# Altium integrated library TI Data Converters Analog to Digital Converter.IntLib: 2198 symbols (part 36 of 164)
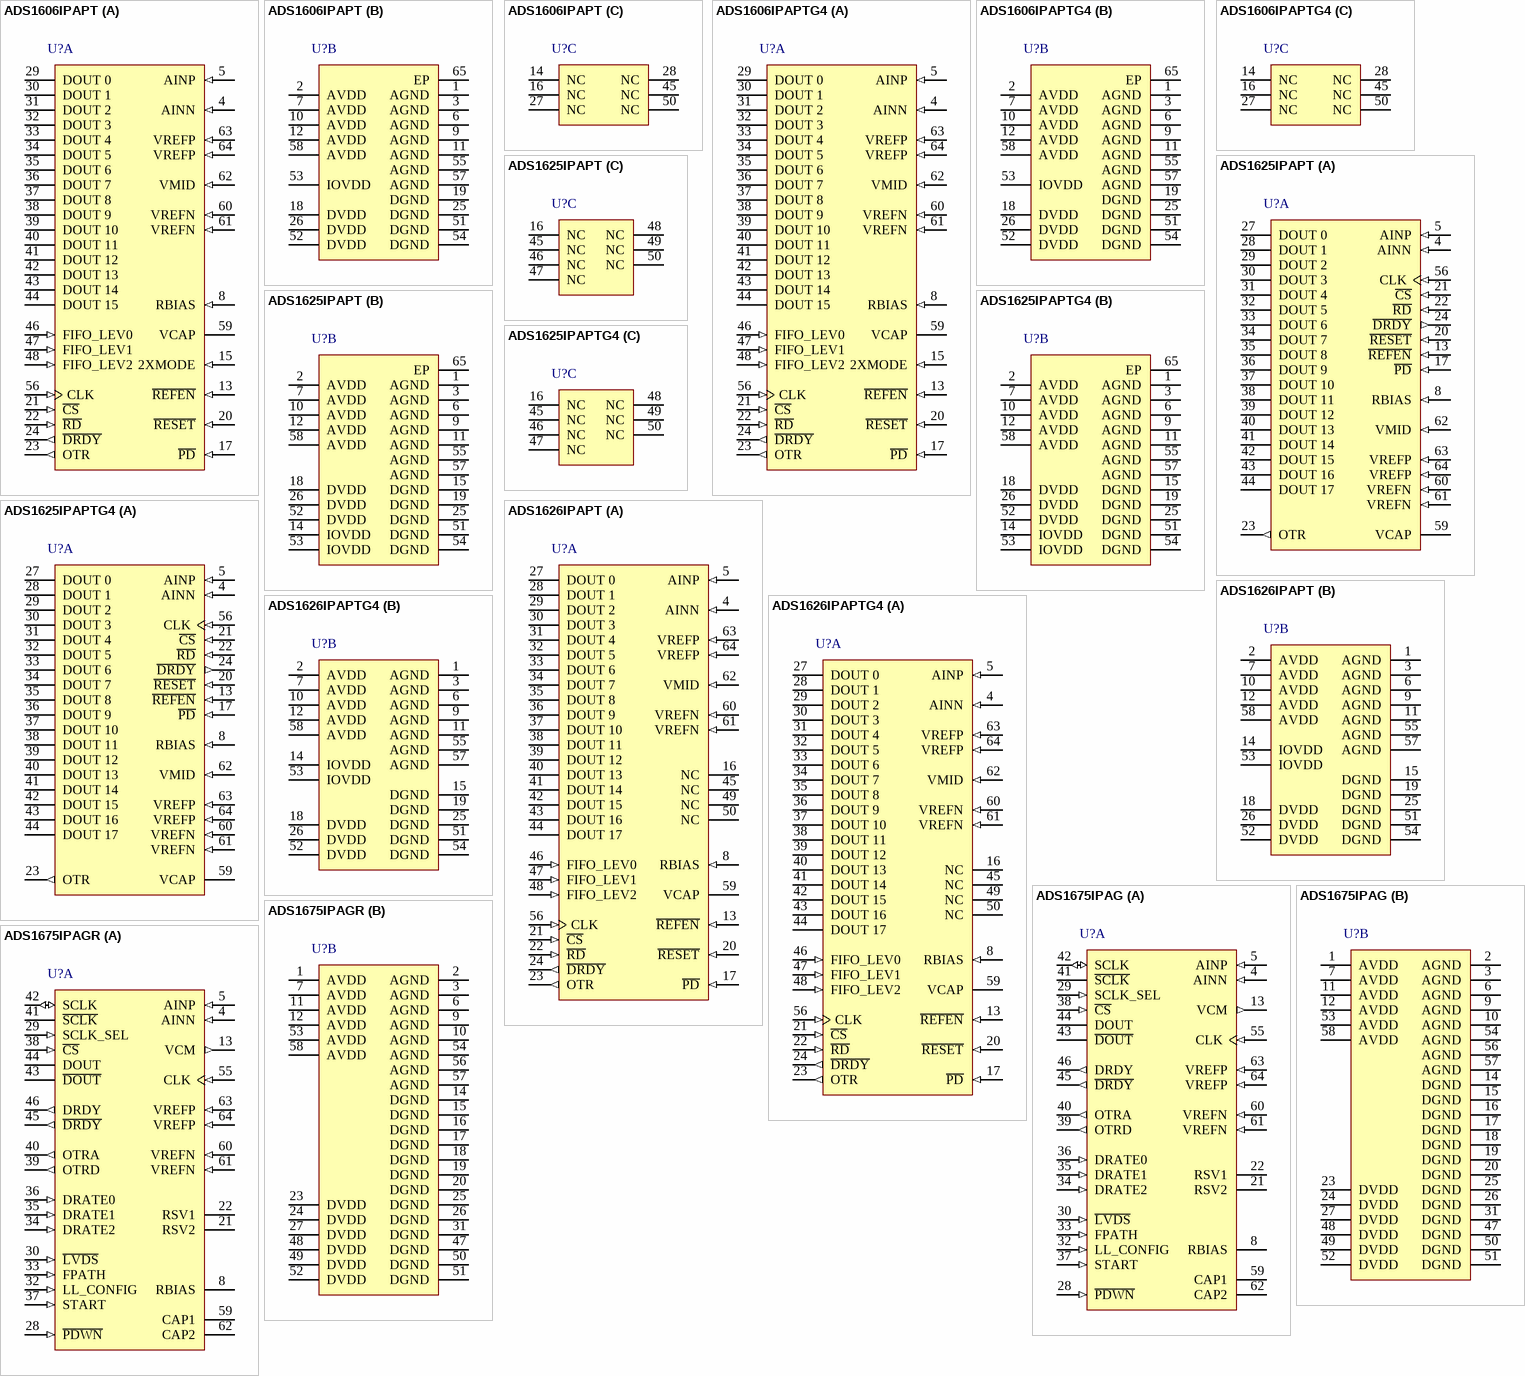
[diagram p161: symbols ADS1606IPAPT to ADS1675IPAGR]

## ADS1675IPAGR
designator U?
4 MSPS, 24-Bit ADC, -40 to 85 degC, 64-pin QFP (PAG64), Green (RoHS & no Sb/Br); Manufacturer: Texas Instruments; PartNumber: ADS1675IPAGR; # Input Channels: 1; Analog Voltage AV/DD(Max)(V): 5.25; Analog Voltage AV/DD(Min)(V): 4.75; Architecture: Delta-Sigma; Digital Supply(Max)(V): 3.15; Digital Supply(Min)(V): 2.85; Interface: Parallel LVDS, Serial SPI; Resolution(Bits): 24; Sample Rate (max)(SPS): 4M; SFDR(dB): 120; SNR(dB): 92; SubFamily: Precision ADC (<=10MSPS); DatasheetVersion: SBAS416D; PackageVersion: 4040282/C, 11/1996; PackageReference: PAG64; PackageDescription: 64-Pin Plastic Flat Pack, Body 10 x 10 mm, Pitch 0.50 mm; Supplier 1: Digi-Key; Supplier Part Number 1: THS1215IPWG4-ND; Eco-Plan: Green (RoHS & no Sb/Br); Mounting Technology: Surface Mount; Code_JEDEC: MS-026; ComponentLink1Description: Manufacturer URL; ComponentLink1URL: http://www.ti.com/; ComponentLink2Description: Datasheet; ComponentLink2URL: http://www.ti.com/general/docs/lit/getliterature.tsp?genericPartNumber=ADS1675&fileType=pdf; ComponentLink3Description: Package Specification; ComponentLink3URL: http://www.ti.com/lit/ml/mtqf006a/mtqf006a.pdf
footprint TI-PAG64_N (QFP, 64-Leads, Body 10x10mm, Pitch 0.5mm, IPC Medium Density)
footprint TI-PAG64_L (QFP, 64-Leads, Body 10x10mm, Pitch 0.5mm, IPC High Density)
footprint TI-PAG64_M (QFP, 64-Leads, Body 10x10mm, Pitch 0.5mm, IPC Low Density)
part A pins: 4 AINN (in) "Negative analog input", 5 AINP (in) "Positive analog input", 8 RBIAS "Analog bias setting resistor", 13 VCM (out) "Terminal for external bypass capacitor connection to internal common-mode voltage", 21 RSV2 "Short pin to digital ground", 22 RSV1 "Short pin to digital supply", 28 ~{PDWN} (in) "Power-down control, active low", 29 SCLK_SEL (in) "Shift-clock source select. If SCLK_SEL = '0', then SCLK is internally generated. If SCLK_SEL = '1', then SCLK must be externally generated.", 30 ~{LVDS} (in) "Serial interface select. If L\V\D\S\ = '0', then interface is LVDS-compatible. If L\V\D\S\ = '1', then interface is CMOS-compatible.", 32 LL_CONFIG (in) "Configure Low-Latency digital filter. If LL_CONFIG = '0', then single-cycle settling is selected. If LL_CONFIG = '1', then fast-response is selected.", 33 FPATH (in) "Digital filter path selection. If FPATH = '0', then path is Wide Bandwidth. If FPATH = '1', then path is Low-Latency.", 34 DRATE2 (in) "Data rate selection", 35 DRATE1 (in) "Data rate selection", 36 DRATE0 (in) "Data rate selection", 37 START (in) "Start convert, reset, and synchronization control input", 38 ~{CS} (in) "Chip select; active low", 39 OTRD (out) "Digital filter out-of-range indicator", 40 OTRA (out) "Analog input out-of-range indicator", 41 ~{SCLK} (hiz) "Negative shift clock output. If SCLK_SEL = '0', then S\C\L\K\ is the complementary shift clock output. If SCLK_SEL = '1', then S\C\L\K\ always output is 3-state.", 42 SCLK (io) "Positive shift clock output. If SCLK_SEL = '0', then SCLK is an output. If SCLK_SEL = '1', then SCLK is an input.", 43 ~{DOUT} (hiz) "Negative LVDS serial data output", 44 DOUT (hiz) "Positive LVDS serial data output", 45 ~{DRDY} (out) "Negative data ready output", 46 DRDY (out) "Positive data ready output", 55 CLK (in) "Master clock input", 59 CAP1 "Terminal for 1uF external bypass capacitor", 60 VREFN (in) "Negative reference voltage. Short to analog ground", 61 VREFN (in) "Negative reference voltage. Short to analog ground", 62 CAP2 "Terminal for 1uF external bypass capacitor", 63 VREFP (in) "Positive reference voltage", 64 VREFP (in) "Positive reference voltage"
part B pins: 1 AVDD (power) "Analog supply", 2 AGND (power) "Analog ground", 3 AGND (power) "Analog ground", 6 AGND (power) "Analog ground", 7 AVDD (power) "Analog supply", 9 AGND (power) "Analog ground", 10 AGND (power) "Analog ground", 11 AVDD (power) "Analog supply", 12 AVDD (power) "Analog supply", 14 DGND (power) "Digital ground", 15 DGND (power) "Digital ground", 16 DGND (power) "Digital ground", 17 DGND (power) "Digital ground", 18 DGND (power) "Digital ground", 19 DGND (power) "Digital ground", 20 DGND (power) "Digital ground", 23 DVDD (power) "Digital supply", 24 DVDD (power) "Digital supply", 25 DGND (power) "Digital ground", 26 DGND (power) "Digital ground", 27 DVDD (power) "Digital supply", 31 DGND (power) "Digital ground", 47 DGND (power) "Digital ground", 48 DVDD (power) "Digital supply", 49 DVDD (power) "Digital supply", 50 DGND (power) "Digital ground", 51 DGND (power) "Digital ground", 52 DVDD (power) "Digital supply", 53 AVDD (power) "Analog supply", 54 AGND (power) "Analog ground", 56 AGND (power) "Analog ground", 57 AGND (power) "Analog ground", 58 AVDD (power) "Analog supply"

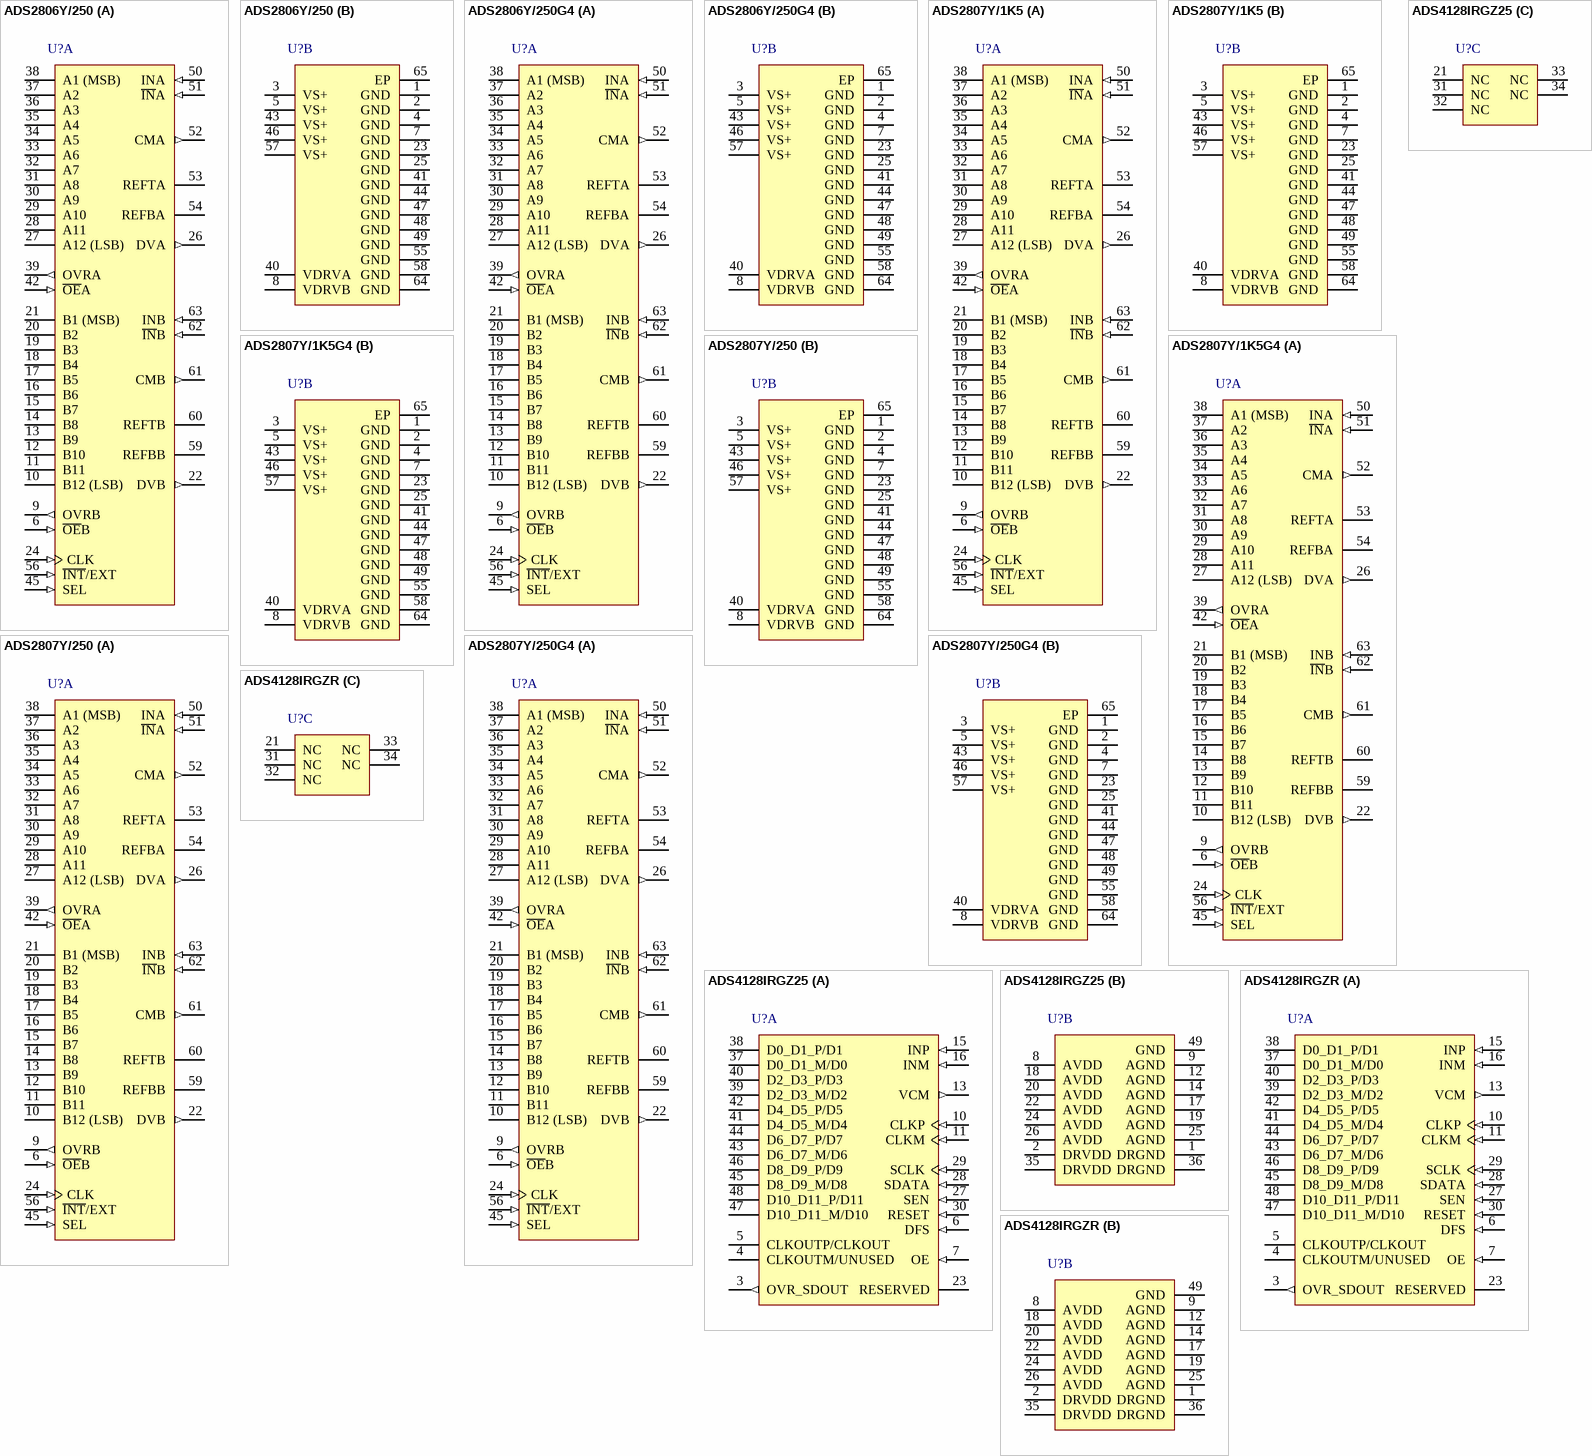
[diagram p31: symbols ADS2806Y/250 to ADS4128IRGZR]

## ADS2806Y/250
designator U?
12-Bit, 32 MSPS Dual ADC, Int / Ext Reference, Program Input Range with Out of Range Flag, -40 to 85 degC, 64-pin QFP (PAP64), Green (RoHS & no Sb/Br); Manufacturer: Texas Instruments; PartNumber: ADS2806Y/250; # Input Channels: 2; Analog Voltage AV/DD(Max)(V): 5.25; Analog Voltage AV/DD(Min)(V): 4.75; Architecture: Pipeline; Digital Supply(Max)(V): 5; Digital Supply(Min)(V): 3; ENOB(Bits): 10.7; INL(Max)(+/-LSB): 4; Interface: Parallel CMOS; Resolution(Bits): 12; Sample Rate (max)(SPS): 32M; SFDR(dB): 73; SINAD(dB): 69; SNR(dB): 66; SubFamily: High Speed ADC (>10MSPS); DatasheetVersion: SBAS178B; PackageVersion: 4147702/C, 08/2003; PackageReference: PAP64-5900X5900TP; PackageDescription: 64-Pin PowerPAD(TM) Plastic Quad Flatpack, Body 10 x 10 mm, Pitch 0.5 mm; Supplier 1: Digi-Key; Supplier Part Number 1: 296-2838-5-ND; Eco-Plan: Green (RoHS & no Sb/Br); Mounting Technology: Surface Mount; Code_JEDEC: MS-026; ComponentLink1Description: Manufacturer URL; ComponentLink1URL: http://www.ti.com/; ComponentLink2Description: Datasheet; ComponentLink2URL: http://www.ti.com/general/docs/lit/getliterature.tsp?genericPartNumber=ADS2806&fileType=pdf; ComponentLink3Description: Package Specification; ComponentLink3URL: http://www.ti.com/lit/ml/mpqf071b/mpqf071b.pdf
footprint TI-PAP64-5900X5900TP_N (QFP, 64-Leads, Body 10x10mm, Pitch 0.5mm, Thermal Pad 6.5x6.5mm, IPC Medium Density)
footprint TI-PAP64-5900X5900TP_L (QFP, 64-Leads, Body 10x10mm, Pitch 0.5mm, Thermal Pad 6.5x6.5mm, IPC High Density)
footprint TI-PAP64-5900X5900TP_M (QFP, 64-Leads, Body 10x10mm, Pitch 0.5mm, Thermal Pad 6.5x6.5mm, IPC Low Density)
part A pins: 6 ~{OE}B (in) "Output Enable, Channel B", 9 OVRB (out) "Over-Range Indicator, Channel B", 10 B12 (LSB) (hiz) "Data Bit 12 (D0), Channel B", 11 B11 (hiz) "Data Bit 11 (D1), Channel B", 12 B10 (hiz) "Data Bit 10 (D2), Channel B", 13 B9 (hiz) "Data Bit 9 (D3), Channel B", 14 B8 (hiz) "Data Bit 8 (D4), Channel B", 15 B7 (hiz) "Data Bit 7 (D5), Channel B", 16 B6 (hiz) "Data Bit 6 (D6), Channel B", 17 B5 (hiz) "Data Bit 5 (D7), Channel B", 18 B4 (hiz) "Data Bit 4 (D8), Channel B", 19 B3 (hiz) "Data Bit 3 (D9), Channel B", 20 B2 (hiz) "Data Bit 2 (D10), Channel B", 21 B1 (MSB) (hiz) "Data Bit 1 (D11), Channel B", 22 DVB (out) "Data Valid, Channel B", 24 CLK (in) "Clock", 26 DVA (out) "Data Valid, Channel A", 27 A12 (LSB) (hiz) "Data Bit 12 (D0), Channel A", 28 A11 (hiz) "Data Bit 11 (D1), Channel A", 29 A10 (hiz) "Data Bit 10 (D2), Channel A", 30 A9 (hiz) "Data Bit 9 (D3), Channel A", 31 A8 (hiz) "Data Bit 8 (D4), Channel A", 32 A7 (hiz) "Data Bit 7 (D5), Channel A", 33 A6 (hiz) "Data Bit 6 (D6), Channel A", 34 A5 (hiz) "Data Bit 5 (D7), Channel A", 35 A4 (hiz) "Data Bit 4 (D8), Channel A", 36 A3 (hiz) "Data Bit 3 (D9), Channel A", 37 A2 (hiz) "Data Bit 2 (D10), Channel A", 38 A1 (MSB) (hiz) "Data Bit 1 (D11), Channel A", 39 OVRA (out) "Over-Range Indicator, Channel A", 42 ~{OE}A (in) "Output Enable, Channel A", 45 SEL (in) "Input Range Select: HIGH = 3V, LOW = 2V", 50 INA (in) "Analog Input, Channel A", 51 ~{IN}A (in) "Complementary Analog Input, Channel A", 52 CMA (out) "Common-Mode, Channel A", 53 REFTA "Top Reference/Bypass, Channel A", 54 REFBA "Bottom Reference/Bypass, Channel A", 56 ~{INT}/EXT (in) "Reference Select: HIGH = External,LOW = Internal 50kO Pull-Up Resistor", 59 REFBB "Bottom Reference/Bypass, Channel B", 60 REFTB "Top Reference/Bypass, Channel B", 61 CMB (out) "Common-Mode, Channel B", 62 ~{IN}B (in) "Complementary Analog Input, Channel B", 63 INB (in) "Analog Input, Channel B"
part B pins: 1 GND (power) "Ground", 2 GND (power) "Ground", 3 VS+ (power) "+5V Supply", 4 GND (power) "Ground", 5 VS+ (power) "+5V Supply", 7 GND (power), 8 VDRVB (power) "Logic Driver Supply Voltage, Channel B", 23 GND (power) "Ground", 25 GND (power) "Ground", 40 VDRVA (power) "Logic Driver Supply Voltage, Channel A", 41 GND (power) "Ground", 43 VS+ (power) "+5V Supply", 44 GND (power) "Ground", 46 VS+ (power) "+5V Supply", 47 GND (power) "Ground", 48 GND (power) "Ground", 49 GND (power) "Ground", 55 GND (power) "Ground", 57 VS+ (power) "+5V Supply", 58 GND (power) "Ground", 64 GND (power) "Ground", 65 EP

## ADS2806Y/250G4
designator U?
12-Bit, 32 MSPS Dual ADC, Int / Ext Reference, Program Input Range with Out of Range Flag, -40 to 85 degC, 64-pin QFP (PAP64), Green (RoHS & no Sb/Br); Manufacturer: Texas Instruments; PartNumber: ADS2806Y/250G4; # Input Channels: 2; Analog Voltage AV/DD(Max)(V): 5.25; Analog Voltage AV/DD(Min)(V): 4.75; Architecture: Pipeline; Digital Supply(Max)(V): 5; Digital Supply(Min)(V): 3; ENOB(Bits): 10.7; INL(Max)(+/-LSB): 4; Interface: Parallel CMOS; Resolution(Bits): 12; Sample Rate (max)(SPS): 32M; SFDR(dB): 73; SINAD(dB): 69; SNR(dB): 66; SubFamily: High Speed ADC (>10MSPS); DatasheetVersion: SBAS178B; PackageVersion: 4147702/C, 08/2003; PackageReference: PAP64-5900X5900TP; PackageDescription: 64-Pin PowerPAD(TM) Plastic Quad Flatpack, Body 10 x 10 mm, Pitch 0.5 mm; Supplier 1: Digi-Key; Supplier Part Number 1: THS1230IPWG4-ND; Eco-Plan: Green (RoHS & no Sb/Br); Mounting Technology: Surface Mount; Code_JEDEC: MS-026; ComponentLink1Description: Manufacturer URL; ComponentLink1URL: http://www.ti.com/; ComponentLink2Description: Datasheet; ComponentLink2URL: http://www.ti.com/general/docs/lit/getliterature.tsp?genericPartNumber=ADS2806&fileType=pdf; ComponentLink3Description: Package Specification; ComponentLink3URL: http://www.ti.com/lit/ml/mpqf071b/mpqf071b.pdf
footprint TI-PAP64-5900X5900TP_N (QFP, 64-Leads, Body 10x10mm, Pitch 0.5mm, Thermal Pad 6.5x6.5mm, IPC Medium Density)
footprint TI-PAP64-5900X5900TP_L (QFP, 64-Leads, Body 10x10mm, Pitch 0.5mm, Thermal Pad 6.5x6.5mm, IPC High Density)
footprint TI-PAP64-5900X5900TP_M (QFP, 64-Leads, Body 10x10mm, Pitch 0.5mm, Thermal Pad 6.5x6.5mm, IPC Low Density)
part A pins: 6 ~{OE}B (in) "Output Enable, Channel B", 9 OVRB (out) "Over-Range Indicator, Channel B", 10 B12 (LSB) (hiz) "Data Bit 12 (D0), Channel B", 11 B11 (hiz) "Data Bit 11 (D1), Channel B", 12 B10 (hiz) "Data Bit 10 (D2), Channel B", 13 B9 (hiz) "Data Bit 9 (D3), Channel B", 14 B8 (hiz) "Data Bit 8 (D4), Channel B", 15 B7 (hiz) "Data Bit 7 (D5), Channel B", 16 B6 (hiz) "Data Bit 6 (D6), Channel B", 17 B5 (hiz) "Data Bit 5 (D7), Channel B", 18 B4 (hiz) "Data Bit 4 (D8), Channel B", 19 B3 (hiz) "Data Bit 3 (D9), Channel B", 20 B2 (hiz) "Data Bit 2 (D10), Channel B", 21 B1 (MSB) (hiz) "Data Bit 1 (D11), Channel B", 22 DVB (out) "Data Valid, Channel B", 24 CLK (in) "Clock", 26 DVA (out) "Data Valid, Channel A", 27 A12 (LSB) (hiz) "Data Bit 12 (D0), Channel A", 28 A11 (hiz) "Data Bit 11 (D1), Channel A", 29 A10 (hiz) "Data Bit 10 (D2), Channel A", 30 A9 (hiz) "Data Bit 9 (D3), Channel A", 31 A8 (hiz) "Data Bit 8 (D4), Channel A", 32 A7 (hiz) "Data Bit 7 (D5), Channel A", 33 A6 (hiz) "Data Bit 6 (D6), Channel A", 34 A5 (hiz) "Data Bit 5 (D7), Channel A", 35 A4 (hiz) "Data Bit 4 (D8), Channel A", 36 A3 (hiz) "Data Bit 3 (D9), Channel A", 37 A2 (hiz) "Data Bit 2 (D10), Channel A", 38 A1 (MSB) (hiz) "Data Bit 1 (D11), Channel A", 39 OVRA (out) "Over-Range Indicator, Channel A", 42 ~{OE}A (in) "Output Enable, Channel A", 45 SEL (in) "Input Range Select: HIGH = 3V, LOW = 2V", 50 INA (in) "Analog Input, Channel A", 51 ~{IN}A (in) "Complementary Analog Input, Channel A", 52 CMA (out) "Common-Mode, Channel A", 53 REFTA "Top Reference/Bypass, Channel A", 54 REFBA "Bottom Reference/Bypass, Channel A", 56 ~{INT}/EXT (in) "Reference Select: HIGH = External,LOW = Internal 50kO Pull-Up Resistor", 59 REFBB "Bottom Reference/Bypass, Channel B", 60 REFTB "Top Reference/Bypass, Channel B", 61 CMB (out) "Common-Mode, Channel B", 62 ~{IN}B (in) "Complementary Analog Input, Channel B", 63 INB (in) "Analog Input, Channel B"
part B pins: 1 GND (power) "Ground", 2 GND (power) "Ground", 3 VS+ (power) "+5V Supply", 4 GND (power) "Ground", 5 VS+ (power) "+5V Supply", 7 GND (power), 8 VDRVB (power) "Logic Driver Supply Voltage, Channel B", 23 GND (power) "Ground", 25 GND (power) "Ground", 40 VDRVA (power) "Logic Driver Supply Voltage, Channel A", 41 GND (power) "Ground", 43 VS+ (power) "+5V Supply", 44 GND (power) "Ground", 46 VS+ (power) "+5V Supply", 47 GND (power) "Ground", 48 GND (power) "Ground", 49 GND (power) "Ground", 55 GND (power) "Ground", 57 VS+ (power) "+5V Supply", 58 GND (power) "Ground", 64 GND (power) "Ground", 65 EP

## ADS2807Y/1K5
designator U?
12-Bit, 50 MSPS Dual ADC, Int / Ext Reference, Program Input Range with Out of Range Flag, -40 to 85 degC, 64-pin QFP (PAP64), Green (RoHS & no Sb/Br); Manufacturer: Texas Instruments; PartNumber: ADS2807Y/1K5; # Input Channels: 2; Analog Voltage AV/DD(Max)(V): 5.25; Analog Voltage AV/DD(Min)(V): 4.75; Architecture: Pipeline; Digital Supply(Max)(V): 5; Digital Supply(Min)(V): 3; Interface: Parallel CMOS; Resolution(Bits): 12; Sample Rate (max)(SPS): 50M; SFDR(dB): 70; SINAD(dB): 64; SNR(dB): 65; SubFamily: High Speed ADC (>10MSPS); DatasheetVersion: SBAS169B; PackageVersion: 4147702/C, 08/2003; PackageReference: PAP64-5900X5900TP; PackageDescription: 64-Pin PowerPAD(TM) Plastic Quad Flatpack, Body 10 x 10 mm, Pitch 0.5 mm; Supplier 1: Digi-Key; Supplier Part Number 1: 296-25299-5-ND; Eco-Plan: Green (RoHS & no Sb/Br); INL(Max)(+/-LSB): 5; Mounting Technology: Surface Mount; Code_JEDEC: MS-026; ComponentLink1Description: Manufacturer URL; ComponentLink1URL: http://www.ti.com/; ComponentLink2Description: Datasheet; ComponentLink2URL: http://www.ti.com/general/docs/lit/getliterature.tsp?genericPartNumber=ADS2807&fileType=pdf; ComponentLink3Description: Package Specification; ComponentLink3URL: http://www.ti.com/lit/ml/mpqf071b/mpqf071b.pdf
footprint TI-PAP64-5900X5900TP_N (QFP, 64-Leads, Body 10x10mm, Pitch 0.5mm, Thermal Pad 6.5x6.5mm, IPC Medium Density)
footprint TI-PAP64-5900X5900TP_L (QFP, 64-Leads, Body 10x10mm, Pitch 0.5mm, Thermal Pad 6.5x6.5mm, IPC High Density)
footprint TI-PAP64-5900X5900TP_M (QFP, 64-Leads, Body 10x10mm, Pitch 0.5mm, Thermal Pad 6.5x6.5mm, IPC Low Density)
part A pins: 6 ~{OE}B (in) "Output Enable, Channel B", 9 OVRB (out) "Over-Range Indicator, Channel B", 10 B12 (LSB) (hiz) "Data Bit 12 (D0), Channel B", 11 B11 (hiz) "Data Bit 11 (D1), Channel B", 12 B10 (hiz) "Data Bit 10 (D2), Channel B", 13 B9 (hiz) "Data Bit 9 (D3), Channel B", 14 B8 (hiz) "Data Bit 8 (D4), Channel B", 15 B7 (hiz) "Data Bit 7 (D5), Channel B", 16 B6 (hiz) "Data Bit 6 (D6), Channel B", 17 B5 (hiz) "Data Bit 5 (D7), Channel B", 18 B4 (hiz) "Data Bit 4 (D8), Channel B", 19 B3 (hiz) "Data Bit 3 (D9), Channel B", 20 B2 (hiz) "Data Bit 2 (D10), Channel B", 21 B1 (MSB) (hiz) "Data Bit 1 (D11), Channel B", 22 DVB (out) "Data Valid, Channel B", 24 CLK (in) "Clock", 26 DVA (out) "Data Valid, Channel A", 27 A12 (LSB) (hiz) "Data Bit 12 (D0), Channel A", 28 A11 (hiz) "Data Bit 11 (D1), Channel A", 29 A10 (hiz) "Data Bit 10 (D2), Channel A", 30 A9 (hiz) "Data Bit 9 (D3), Channel A", 31 A8 (hiz) "Data Bit 8 (D4), Channel A", 32 A7 (hiz) "Data Bit 7 (D5), Channel A", 33 A6 (hiz) "Data Bit 6 (D6), Channel A", 34 A5 (hiz) "Data Bit 5 (D7), Channel A", 35 A4 (hiz) "Data Bit 4 (D8), Channel A", 36 A3 (hiz) "Data Bit 3 (D9), Channel A", 37 A2 (hiz) "Data Bit 2 (D10), Channel A", 38 A1 (MSB) (hiz) "Data Bit 1 (D11), Channel A", 39 OVRA (out) "Over-Range Indicator, Channel A", 42 ~{OE}A (in) "Output Enable, Channel A", 45 SEL (in) "Input Range Select: HIGH = 3V, LOW = 2V", 50 INA (in) "Analog Input, Channel A", 51 ~{IN}A (in) "Complementary Analog Input, Channel A", 52 CMA (out) "Common-Mode, Channel A", 53 REFTA "Top Reference/Bypass, Channel A", 54 REFBA "Bottom Reference/Bypass, Channel A", 56 ~{INT}/EXT (in) "Reference Select: HIGH = External,LOW = Internal 50kO Pull-Up Resistor", 59 REFBB "Bottom Reference/Bypass, Channel B", 60 REFTB "Top Reference/Bypass, Channel B", 61 CMB (out) "Common-Mode, Channel B", 62 ~{IN}B (in) "Complementary Analog Input, Channel B", 63 INB (in) "Analog Input, Channel B"
part B pins: 1 GND (power) "Ground", 2 GND (power) "Ground", 3 VS+ (power) "+5V Supply", 4 GND (power) "Ground", 5 VS+ (power) "+5V Supply", 7 GND (power), 8 VDRVB (power) "Logic Driver Supply Voltage, Channel B", 23 GND (power) "Ground", 25 GND (power) "Ground", 40 VDRVA (power) "Logic Driver Supply Voltage, Channel A", 41 GND (power) "Ground", 43 VS+ (power) "+5V Supply", 44 GND (power) "Ground", 46 VS+ (power) "+5V Supply", 47 GND (power) "Ground", 48 GND (power) "Ground", 49 GND (power) "Ground", 55 GND (power) "Ground", 57 VS+ (power) "+5V Supply", 58 GND (power) "Ground", 64 GND (power) "Ground", 65 EP

## ADS2807Y/1K5G4
designator U?
12-Bit, 50 MSPS Dual ADC, Int / Ext Reference, Program Input Range with Out of Range Flag, -40 to 85 degC, 64-pin QFP (PAP64), Green (RoHS & no Sb/Br); Manufacturer: Texas Instruments; PartNumber: ADS2807Y/1K5G4; # Input Channels: 2; Analog Voltage AV/DD(Max)(V): 5.25; Analog Voltage AV/DD(Min)(V): 4.75; Architecture: Pipeline; Digital Supply(Max)(V): 5; Digital Supply(Min)(V): 3; Interface: Parallel CMOS; Resolution(Bits): 12; Sample Rate (max)(SPS): 50M; SFDR(dB): 70; SINAD(dB): 64; SNR(dB): 65; SubFamily: High Speed ADC (>10MSPS); DatasheetVersion: SBAS169B; PackageVersion: 4147702/C, 08/2003; PackageReference: PAP64-5900X5900TP; PackageDescription: 64-Pin PowerPAD(TM) Plastic Quad Flatpack, Body 10 x 10 mm, Pitch 0.5 mm; Supplier 1: Digi-Key; Supplier Part Number 1: THS1030CPWG4-ND; Eco-Plan: Green (RoHS & no Sb/Br); INL(Max)(+/-LSB): 5; Mounting Technology: Surface Mount; Code_JEDEC: MS-026; ComponentLink1Description: Manufacturer URL; ComponentLink1URL: http://www.ti.com/; ComponentLink2Description: Datasheet; ComponentLink2URL: http://www.ti.com/general/docs/lit/getliterature.tsp?genericPartNumber=ADS2807&fileType=pdf; ComponentLink3Description: Package Specification; ComponentLink3URL: http://www.ti.com/lit/ml/mpqf071b/mpqf071b.pdf
footprint TI-PAP64-5900X5900TP_N (QFP, 64-Leads, Body 10x10mm, Pitch 0.5mm, Thermal Pad 6.5x6.5mm, IPC Medium Density)
footprint TI-PAP64-5900X5900TP_L (QFP, 64-Leads, Body 10x10mm, Pitch 0.5mm, Thermal Pad 6.5x6.5mm, IPC High Density)
footprint TI-PAP64-5900X5900TP_M (QFP, 64-Leads, Body 10x10mm, Pitch 0.5mm, Thermal Pad 6.5x6.5mm, IPC Low Density)
part A pins: 6 ~{OE}B (in) "Output Enable, Channel B", 9 OVRB (out) "Over-Range Indicator, Channel B", 10 B12 (LSB) (hiz) "Data Bit 12 (D0), Channel B", 11 B11 (hiz) "Data Bit 11 (D1), Channel B", 12 B10 (hiz) "Data Bit 10 (D2), Channel B", 13 B9 (hiz) "Data Bit 9 (D3), Channel B", 14 B8 (hiz) "Data Bit 8 (D4), Channel B", 15 B7 (hiz) "Data Bit 7 (D5), Channel B", 16 B6 (hiz) "Data Bit 6 (D6), Channel B", 17 B5 (hiz) "Data Bit 5 (D7), Channel B", 18 B4 (hiz) "Data Bit 4 (D8), Channel B", 19 B3 (hiz) "Data Bit 3 (D9), Channel B", 20 B2 (hiz) "Data Bit 2 (D10), Channel B", 21 B1 (MSB) (hiz) "Data Bit 1 (D11), Channel B", 22 DVB (out) "Data Valid, Channel B", 24 CLK (in) "Clock", 26 DVA (out) "Data Valid, Channel A", 27 A12 (LSB) (hiz) "Data Bit 12 (D0), Channel A", 28 A11 (hiz) "Data Bit 11 (D1), Channel A", 29 A10 (hiz) "Data Bit 10 (D2), Channel A", 30 A9 (hiz) "Data Bit 9 (D3), Channel A", 31 A8 (hiz) "Data Bit 8 (D4), Channel A", 32 A7 (hiz) "Data Bit 7 (D5), Channel A", 33 A6 (hiz) "Data Bit 6 (D6), Channel A", 34 A5 (hiz) "Data Bit 5 (D7), Channel A", 35 A4 (hiz) "Data Bit 4 (D8), Channel A", 36 A3 (hiz) "Data Bit 3 (D9), Channel A", 37 A2 (hiz) "Data Bit 2 (D10), Channel A", 38 A1 (MSB) (hiz) "Data Bit 1 (D11), Channel A", 39 OVRA (out) "Over-Range Indicator, Channel A", 42 ~{OE}A (in) "Output Enable, Channel A", 45 SEL (in) "Input Range Select: HIGH = 3V, LOW = 2V", 50 INA (in) "Analog Input, Channel A", 51 ~{IN}A (in) "Complementary Analog Input, Channel A", 52 CMA (out) "Common-Mode, Channel A", 53 REFTA "Top Reference/Bypass, Channel A", 54 REFBA "Bottom Reference/Bypass, Channel A", 56 ~{INT}/EXT (in) "Reference Select: HIGH = External,LOW = Internal 50kO Pull-Up Resistor", 59 REFBB "Bottom Reference/Bypass, Channel B", 60 REFTB "Top Reference/Bypass, Channel B", 61 CMB (out) "Common-Mode, Channel B", 62 ~{IN}B (in) "Complementary Analog Input, Channel B", 63 INB (in) "Analog Input, Channel B"
part B pins: 1 GND (power) "Ground", 2 GND (power) "Ground", 3 VS+ (power) "+5V Supply", 4 GND (power) "Ground", 5 VS+ (power) "+5V Supply", 7 GND (power), 8 VDRVB (power) "Logic Driver Supply Voltage, Channel B", 23 GND (power) "Ground", 25 GND (power) "Ground", 40 VDRVA (power) "Logic Driver Supply Voltage, Channel A", 41 GND (power) "Ground", 43 VS+ (power) "+5V Supply", 44 GND (power) "Ground", 46 VS+ (power) "+5V Supply", 47 GND (power) "Ground", 48 GND (power) "Ground", 49 GND (power) "Ground", 55 GND (power) "Ground", 57 VS+ (power) "+5V Supply", 58 GND (power) "Ground", 64 GND (power) "Ground", 65 EP

## ADS2807Y/250
designator U?
12-Bit, 50 MSPS Dual ADC, Int / Ext Reference, Program Input Range with Out of Range Flag, -40 to 85 degC, 64-pin QFP (PAP64), Green (RoHS & no Sb/Br); Manufacturer: Texas Instruments; PartNumber: ADS2807Y/250; # Input Channels: 2; Analog Voltage AV/DD(Max)(V): 5.25; Analog Voltage AV/DD(Min)(V): 4.75; Architecture: Pipeline; Digital Supply(Max)(V): 5; Digital Supply(Min)(V): 3; Interface: Parallel CMOS; Resolution(Bits): 12; Sample Rate (max)(SPS): 50M; SFDR(dB): 70; SINAD(dB): 64; SNR(dB): 65; SubFamily: High Speed ADC (>10MSPS); DatasheetVersion: SBAS169B; PackageVersion: 4147702/C, 08/2003; PackageReference: PAP64-5900X5900TP; PackageDescription: 64-Pin PowerPAD(TM) Plastic Quad Flatpack, Body 10 x 10 mm, Pitch 0.5 mm; Supplier 1: Digi-Key; Supplier Part Number 1: THS1030CPWR-ND; Eco-Plan: Green (RoHS & no Sb/Br); INL(Max)(+/-LSB): 5; Mounting Technology: Surface Mount; Code_JEDEC: MS-026; ComponentLink1Description: Manufacturer URL; ComponentLink1URL: http://www.ti.com/; ComponentLink2Description: Datasheet; ComponentLink2URL: http://www.ti.com/general/docs/lit/getliterature.tsp?genericPartNumber=ADS2807&fileType=pdf; ComponentLink3Description: Package Specification; ComponentLink3URL: http://www.ti.com/lit/ml/mpqf071b/mpqf071b.pdf
footprint TI-PAP64-5900X5900TP_N (QFP, 64-Leads, Body 10x10mm, Pitch 0.5mm, Thermal Pad 6.5x6.5mm, IPC Medium Density)
footprint TI-PAP64-5900X5900TP_L (QFP, 64-Leads, Body 10x10mm, Pitch 0.5mm, Thermal Pad 6.5x6.5mm, IPC High Density)
footprint TI-PAP64-5900X5900TP_M (QFP, 64-Leads, Body 10x10mm, Pitch 0.5mm, Thermal Pad 6.5x6.5mm, IPC Low Density)
part A pins: 6 ~{OE}B (in) "Output Enable, Channel B", 9 OVRB (out) "Over-Range Indicator, Channel B", 10 B12 (LSB) (hiz) "Data Bit 12 (D0), Channel B", 11 B11 (hiz) "Data Bit 11 (D1), Channel B", 12 B10 (hiz) "Data Bit 10 (D2), Channel B", 13 B9 (hiz) "Data Bit 9 (D3), Channel B", 14 B8 (hiz) "Data Bit 8 (D4), Channel B", 15 B7 (hiz) "Data Bit 7 (D5), Channel B", 16 B6 (hiz) "Data Bit 6 (D6), Channel B", 17 B5 (hiz) "Data Bit 5 (D7), Channel B", 18 B4 (hiz) "Data Bit 4 (D8), Channel B", 19 B3 (hiz) "Data Bit 3 (D9), Channel B", 20 B2 (hiz) "Data Bit 2 (D10), Channel B", 21 B1 (MSB) (hiz) "Data Bit 1 (D11), Channel B", 22 DVB (out) "Data Valid, Channel B", 24 CLK (in) "Clock", 26 DVA (out) "Data Valid, Channel A", 27 A12 (LSB) (hiz) "Data Bit 12 (D0), Channel A", 28 A11 (hiz) "Data Bit 11 (D1), Channel A", 29 A10 (hiz) "Data Bit 10 (D2), Channel A", 30 A9 (hiz) "Data Bit 9 (D3), Channel A", 31 A8 (hiz) "Data Bit 8 (D4), Channel A", 32 A7 (hiz) "Data Bit 7 (D5), Channel A", 33 A6 (hiz) "Data Bit 6 (D6), Channel A", 34 A5 (hiz) "Data Bit 5 (D7), Channel A", 35 A4 (hiz) "Data Bit 4 (D8), Channel A", 36 A3 (hiz) "Data Bit 3 (D9), Channel A", 37 A2 (hiz) "Data Bit 2 (D10), Channel A", 38 A1 (MSB) (hiz) "Data Bit 1 (D11), Channel A", 39 OVRA (out) "Over-Range Indicator, Channel A", 42 ~{OE}A (in) "Output Enable, Channel A", 45 SEL (in) "Input Range Select: HIGH = 3V, LOW = 2V", 50 INA (in) "Analog Input, Channel A", 51 ~{IN}A (in) "Complementary Analog Input, Channel A", 52 CMA (out) "Common-Mode, Channel A", 53 REFTA "Top Reference/Bypass, Channel A", 54 REFBA "Bottom Reference/Bypass, Channel A", 56 ~{INT}/EXT (in) "Reference Select: HIGH = External,LOW = Internal 50kO Pull-Up Resistor", 59 REFBB "Bottom Reference/Bypass, Channel B", 60 REFTB "Top Reference/Bypass, Channel B", 61 CMB (out) "Common-Mode, Channel B", 62 ~{IN}B (in) "Complementary Analog Input, Channel B", 63 INB (in) "Analog Input, Channel B"
part B pins: 1 GND (power) "Ground", 2 GND (power) "Ground", 3 VS+ (power) "+5V Supply", 4 GND (power) "Ground", 5 VS+ (power) "+5V Supply", 7 GND (power), 8 VDRVB (power) "Logic Driver Supply Voltage, Channel B", 23 GND (power) "Ground", 25 GND (power) "Ground", 40 VDRVA (power) "Logic Driver Supply Voltage, Channel A", 41 GND (power) "Ground", 43 VS+ (power) "+5V Supply", 44 GND (power) "Ground", 46 VS+ (power) "+5V Supply", 47 GND (power) "Ground", 48 GND (power) "Ground", 49 GND (power) "Ground", 55 GND (power) "Ground", 57 VS+ (power) "+5V Supply", 58 GND (power) "Ground", 64 GND (power) "Ground", 65 EP

## ADS2807Y/250G4
designator U?
12-Bit, 50 MSPS Dual ADC, Int / Ext Reference, Program Input Range with Out of Range Flag, -40 to 85 degC, 64-pin QFP (PAP64), Green (RoHS & no Sb/Br); Manufacturer: Texas Instruments; PartNumber: ADS2807Y/250G4; # Input Channels: 2; Analog Voltage AV/DD(Max)(V): 5.25; Analog Voltage AV/DD(Min)(V): 4.75; Architecture: Pipeline; Digital Supply(Max)(V): 5; Digital Supply(Min)(V): 3; Interface: Parallel CMOS; Resolution(Bits): 12; Sample Rate (max)(SPS): 50M; SFDR(dB): 70; SINAD(dB): 64; SNR(dB): 65; SubFamily: High Speed ADC (>10MSPS); DatasheetVersion: SBAS169B; PackageVersion: 4147702/C, 08/2003; PackageReference: PAP64-5900X5900TP; PackageDescription: 64-Pin PowerPAD(TM) Plastic Quad Flatpack, Body 10 x 10 mm, Pitch 0.5 mm; Supplier 1: Digi-Key; Supplier Part Number 1: THS1030CPWRG4-ND; Eco-Plan: Green (RoHS & no Sb/Br); INL(Max)(+/-LSB): 5; Mounting Technology: Surface Mount; Code_JEDEC: MS-026; ComponentLink1Description: Manufacturer URL; ComponentLink1URL: http://www.ti.com/; ComponentLink2Description: Datasheet; ComponentLink2URL: http://www.ti.com/general/docs/lit/getliterature.tsp?genericPartNumber=ADS2807&fileType=pdf; ComponentLink3Description: Package Specification; ComponentLink3URL: http://www.ti.com/lit/ml/mpqf071b/mpqf071b.pdf
footprint TI-PAP64-5900X5900TP_N (QFP, 64-Leads, Body 10x10mm, Pitch 0.5mm, Thermal Pad 6.5x6.5mm, IPC Medium Density)
footprint TI-PAP64-5900X5900TP_L (QFP, 64-Leads, Body 10x10mm, Pitch 0.5mm, Thermal Pad 6.5x6.5mm, IPC High Density)
footprint TI-PAP64-5900X5900TP_M (QFP, 64-Leads, Body 10x10mm, Pitch 0.5mm, Thermal Pad 6.5x6.5mm, IPC Low Density)
part A pins: 6 ~{OE}B (in) "Output Enable, Channel B", 9 OVRB (out) "Over-Range Indicator, Channel B", 10 B12 (LSB) (hiz) "Data Bit 12 (D0), Channel B", 11 B11 (hiz) "Data Bit 11 (D1), Channel B", 12 B10 (hiz) "Data Bit 10 (D2), Channel B", 13 B9 (hiz) "Data Bit 9 (D3), Channel B", 14 B8 (hiz) "Data Bit 8 (D4), Channel B", 15 B7 (hiz) "Data Bit 7 (D5), Channel B", 16 B6 (hiz) "Data Bit 6 (D6), Channel B", 17 B5 (hiz) "Data Bit 5 (D7), Channel B", 18 B4 (hiz) "Data Bit 4 (D8), Channel B", 19 B3 (hiz) "Data Bit 3 (D9), Channel B", 20 B2 (hiz) "Data Bit 2 (D10), Channel B", 21 B1 (MSB) (hiz) "Data Bit 1 (D11), Channel B", 22 DVB (out) "Data Valid, Channel B", 24 CLK (in) "Clock", 26 DVA (out) "Data Valid, Channel A", 27 A12 (LSB) (hiz) "Data Bit 12 (D0), Channel A", 28 A11 (hiz) "Data Bit 11 (D1), Channel A", 29 A10 (hiz) "Data Bit 10 (D2), Channel A", 30 A9 (hiz) "Data Bit 9 (D3), Channel A", 31 A8 (hiz) "Data Bit 8 (D4), Channel A", 32 A7 (hiz) "Data Bit 7 (D5), Channel A", 33 A6 (hiz) "Data Bit 6 (D6), Channel A", 34 A5 (hiz) "Data Bit 5 (D7), Channel A", 35 A4 (hiz) "Data Bit 4 (D8), Channel A", 36 A3 (hiz) "Data Bit 3 (D9), Channel A", 37 A2 (hiz) "Data Bit 2 (D10), Channel A", 38 A1 (MSB) (hiz) "Data Bit 1 (D11), Channel A", 39 OVRA (out) "Over-Range Indicator, Channel A", 42 ~{OE}A (in) "Output Enable, Channel A", 45 SEL (in) "Input Range Select: HIGH = 3V, LOW = 2V", 50 INA (in) "Analog Input, Channel A", 51 ~{IN}A (in) "Complementary Analog Input, Channel A", 52 CMA (out) "Common-Mode, Channel A", 53 REFTA "Top Reference/Bypass, Channel A", 54 REFBA "Bottom Reference/Bypass, Channel A", 56 ~{INT}/EXT (in) "Reference Select: HIGH = External,LOW = Internal 50kO Pull-Up Resistor", 59 REFBB "Bottom Reference/Bypass, Channel B", 60 REFTB "Top Reference/Bypass, Channel B", 61 CMB (out) "Common-Mode, Channel B", 62 ~{IN}B (in) "Complementary Analog Input, Channel B", 63 INB (in) "Analog Input, Channel B"
part B pins: 1 GND (power) "Ground", 2 GND (power) "Ground", 3 VS+ (power) "+5V Supply", 4 GND (power) "Ground", 5 VS+ (power) "+5V Supply", 7 GND (power), 8 VDRVB (power) "Logic Driver Supply Voltage, Channel B", 23 GND (power) "Ground", 25 GND (power) "Ground", 40 VDRVA (power) "Logic Driver Supply Voltage, Channel A", 41 GND (power) "Ground", 43 VS+ (power) "+5V Supply", 44 GND (power) "Ground", 46 VS+ (power) "+5V Supply", 47 GND (power) "Ground", 48 GND (power) "Ground", 49 GND (power) "Ground", 55 GND (power) "Ground", 57 VS+ (power) "+5V Supply", 58 GND (power) "Ground", 64 GND (power) "Ground", 65 EP

## ADS4128IRGZ25
designator U?
12-Bit, 200 MSPS, Ultralow-Power ADC, -40 to 85 degC, 48-pin QFN (RGZ48), Green (RoHS & no Sb/Br); Manufacturer: Texas Instruments; PartNumber: ADS4128IRGZ25; # Input Channels: 1; Analog Voltage AV/DD(Max)(V): 1.9; Analog Voltage AV/DD(Min)(V): 1.7; Architecture: Pipeline; ENOB(Bits): 11.2; INL(Max)(+/-LSB): 5; Interface: Parallel CMOS, Parallel LVDS; Resolution(Bits): 12; Sample Rate(max)(SPS): 200M; SFDR(dB): 85; SINAD(dB): 68.8; SNR(dB): 69; SubFamily: High Speed ADC (>10MSPS); DatasheetVersion: SBAS578; PackageVersion: 4204101/F, 06/2011; PackageReference: RGZ48-5600X5600TP; PackageDescription: 48-Lead, Plastic Flat Pack, Body Size 7 x 7 mm, Pitch 0.5 mm; Supplier 1: Digi-Key; Supplier Part Number 1: 296-2827-5-ND; Digital Supply(Max)(V): 1.9; Digital Supply(Min)(V): 1.7; Eco-Plan: Green (RoHS & no Sb/Br); Mounting Technology: Surface Mount; Code_JEDEC: MO-220; ComponentLink1Description: Manufacturer URL; ComponentLink1URL: http://www.ti.com/; ComponentLink2Description: Datasheet; ComponentLink2URL: http://www.ti.com/lit/ds/symlink/ads4128.pdf; ComponentLink3Description: Package Specification; ComponentLink3URL: http://www.ti.com/lit/ml/mpqf123e/mpqf123e.pdf
footprint TI-RGZ48-5600X5600TP_V (QFN, 48-Leads, Body 7x7mm, Pitch 0.5mm, Thermal Pad 5.6x5.6mm)
part A pins: 3 OVR_SDOUT (out) "This pin functions as an out-of-range indicator after reset when register bit READOUT = 0, and functions as a serial register readout pin when READOUT = 1.", 4 CLKOUTM/UNUSED (hiz), 5 CLKOUTP/CLKOUT (hiz), 6 DFS (in) "Data format select input. This pin sets the DATA FORMAT (twos complement or offset binary) and the LVDS and CMOS output interface type.", 7 OE (in) "Output buffer enable input, active high; this pin has an internal 180-kohm pull-up resistor to DRVDD.", 10 CLKP (in) "Differential clock input, positive", 11 CLKM (in) "Differential clock input, negative", 13 VCM (out) "Outputs the common-mode voltage (0.95 V) that can be used externally to bias the analog input pins.", 15 INP (in) "Differential analog input, positive", 16 INM (in) "Differential analog input, negative", 23 RESERVED "Digital control pin, reserved for future use", 27 SEN (in) "This pin functions as a serial interface enable input when RESET is low. When RESET is high, SEN has no function and should be tied to AVDD. This pin has an internal 180-kohm pull-up resistor to AVDD.", 28 SDATA (in) "This pin functions as a serial interface data input when RESET is low. When RESET is high, SDATA functions as a STANDBY control pin (see Table 10). This pin has an internal 180-kohm pull-down resistor.", 29 SCLK (in) "This pin functions as a serial interface clock input when RESET is low. When RESET is high, SCLK has no function and should be tied to ground. This pin has an internal 180-kohm pull-down resistor.", 30 RESET (in) "Serial interface RESET input. When using the serial interface mode, the internal registers must initialize through hardware RESET by applying a high pulse on this pin or by using the software reset option; refer to the (See Datasheet)", 37 D0_D1_M/D0 (hiz), 38 D0_D1_P/D1 (hiz), 39 D2_D3_M/D2 (hiz), 40 D2_D3_P/D3 (hiz), 41 D4_D5_M/D4 (hiz), 42 D4_D5_P/D5 (hiz), 43 D6_D7_M/D6 (hiz), 44 D6_D7_P/D7 (hiz), 45 D8_D9_M/D8 (hiz), 46 D8_D9_P/D9 (hiz), 47 D10_D11_M/D10 (hiz), 48 D10_D11_P/D11 (hiz)
part B pins: 1 DRGND (power) "Digital and output buffer ground", 2 DRVDD (power) "1.8-V digital and output buffer supply", 8 AVDD (power) "1.8-V analog power supply", 9 AGND (power) "Analog ground", 12 AGND (power) "Analog ground", 14 AGND (power) "Analog ground", 17 AGND (power) "Analog ground", 18 AVDD (power) "1.8-V analog power supply", 19 AGND (power) "Analog ground", 20 AVDD (power) "1.8-V analog power supply", 22 AVDD (power) "1.8-V analog power supply", 24 AVDD (power) "1.8-V analog power supply", 25 AGND (power) "Analog ground", 26 AVDD (power) "1.8-V analog power supply", 35 DRVDD (power) "1.8-V digital and output buffer supply", 36 DRGND (power) "Digital and output buffer ground", 49 GND (power) "Digital and output buffer ground"
part C pins: 21 NC "Do not connect", 31 NC "Do not connect", 32 NC "Do not connect", 33 NC "Do not connect", 34 NC "Do not connect"

## ADS4128IRGZR
designator U?
12-Bit, 200 MSPS, Ultralow-Power ADC, -40 to 85 degC, 48-pin QFN (RGZ48), Green (RoHS & no Sb/Br); Manufacturer: Texas Instruments; PartNumber: ADS4128IRGZR; # Input Channels: 1; Analog Voltage AV/DD(Max)(V): 1.9; Analog Voltage AV/DD(Min)(V): 1.7; Architecture: Pipeline; ENOB(Bits): 11.2; INL(Max)(+/-LSB): 5; Interface: Parallel CMOS, Parallel LVDS; Resolution(Bits): 12; Sample Rate(max)(SPS): 200M; SFDR(dB): 85; SINAD(dB): 68.8; SNR(dB): 69; SubFamily: High Speed ADC (>10MSPS); DatasheetVersion: SBAS578; PackageVersion: 4204101/F, 06/2011; PackageReference: RGZ48-5600X5600TP; PackageDescription: 48-Lead, Plastic Flat Pack, Body Size 7 x 7 mm, Pitch 0.5 mm; Supplier 1: Digi-Key; Supplier Part Number 1: THS1030IPWG4-ND; Digital Supply(Max)(V): 1.9; Digital Supply(Min)(V): 1.7; Eco-Plan: Green (RoHS & no Sb/Br); Mounting Technology: Surface Mount; Code_JEDEC: MO-220; ComponentLink1Description: Manufacturer URL; ComponentLink1URL: http://www.ti.com/; ComponentLink2Description: Datasheet; ComponentLink2URL: http://www.ti.com/lit/ds/symlink/ads4128.pdf; ComponentLink3Description: Package Specification; ComponentLink3URL: http://www.ti.com/lit/ml/mpqf123e/mpqf123e.pdf
footprint TI-RGZ48-5600X5600TP_V (QFN, 48-Leads, Body 7x7mm, Pitch 0.5mm, Thermal Pad 5.6x5.6mm)
part A pins: 3 OVR_SDOUT (out) "This pin functions as an out-of-range indicator after reset when register bit READOUT = 0, and functions as a serial register readout pin when READOUT = 1.", 4 CLKOUTM/UNUSED (hiz), 5 CLKOUTP/CLKOUT (hiz), 6 DFS (in) "Data format select input. This pin sets the DATA FORMAT (twos complement or offset binary) and the LVDS and CMOS output interface type.", 7 OE (in) "Output buffer enable input, active high; this pin has an internal 180-kohm pull-up resistor to DRVDD.", 10 CLKP (in) "Differential clock input, positive", 11 CLKM (in) "Differential clock input, negative", 13 VCM (out) "Outputs the common-mode voltage (0.95 V) that can be used externally to bias the analog input pins.", 15 INP (in) "Differential analog input, positive", 16 INM (in) "Differential analog input, negative", 23 RESERVED "Digital control pin, reserved for future use", 27 SEN (in) "This pin functions as a serial interface enable input when RESET is low. When RESET is high, SEN has no function and should be tied to AVDD. This pin has an internal 180-kohm pull-up resistor to AVDD.", 28 SDATA (in) "This pin functions as a serial interface data input when RESET is low. When RESET is high, SDATA functions as a STANDBY control pin (see Table 10). This pin has an internal 180-kohm pull-down resistor.", 29 SCLK (in) "This pin functions as a serial interface clock input when RESET is low. When RESET is high, SCLK has no function and should be tied to ground. This pin has an internal 180-kohm pull-down resistor.", 30 RESET (in) "Serial interface RESET input. When using the serial interface mode, the internal registers must initialize through hardware RESET by applying a high pulse on this pin or by using the software reset option; refer to the (See Datasheet)", 37 D0_D1_M/D0 (hiz), 38 D0_D1_P/D1 (hiz), 39 D2_D3_M/D2 (hiz), 40 D2_D3_P/D3 (hiz), 41 D4_D5_M/D4 (hiz), 42 D4_D5_P/D5 (hiz), 43 D6_D7_M/D6 (hiz), 44 D6_D7_P/D7 (hiz), 45 D8_D9_M/D8 (hiz), 46 D8_D9_P/D9 (hiz), 47 D10_D11_M/D10 (hiz), 48 D10_D11_P/D11 (hiz)
part B pins: 1 DRGND (power) "Digital and output buffer ground", 2 DRVDD (power) "1.8-V digital and output buffer supply", 8 AVDD (power) "1.8-V analog power supply", 9 AGND (power) "Analog ground", 12 AGND (power) "Analog ground", 14 AGND (power) "Analog ground", 17 AGND (power) "Analog ground", 18 AVDD (power) "1.8-V analog power supply", 19 AGND (power) "Analog ground", 20 AVDD (power) "1.8-V analog power supply", 22 AVDD (power) "1.8-V analog power supply", 24 AVDD (power) "1.8-V analog power supply", 25 AGND (power) "Analog ground", 26 AVDD (power) "1.8-V analog power supply", 35 DRVDD (power) "1.8-V digital and output buffer supply", 36 DRGND (power) "Digital and output buffer ground", 49 GND (power) "Digital and output buffer ground"
part C pins: 21 NC "Do not connect", 31 NC "Do not connect", 32 NC "Do not connect", 33 NC "Do not connect", 34 NC "Do not connect"

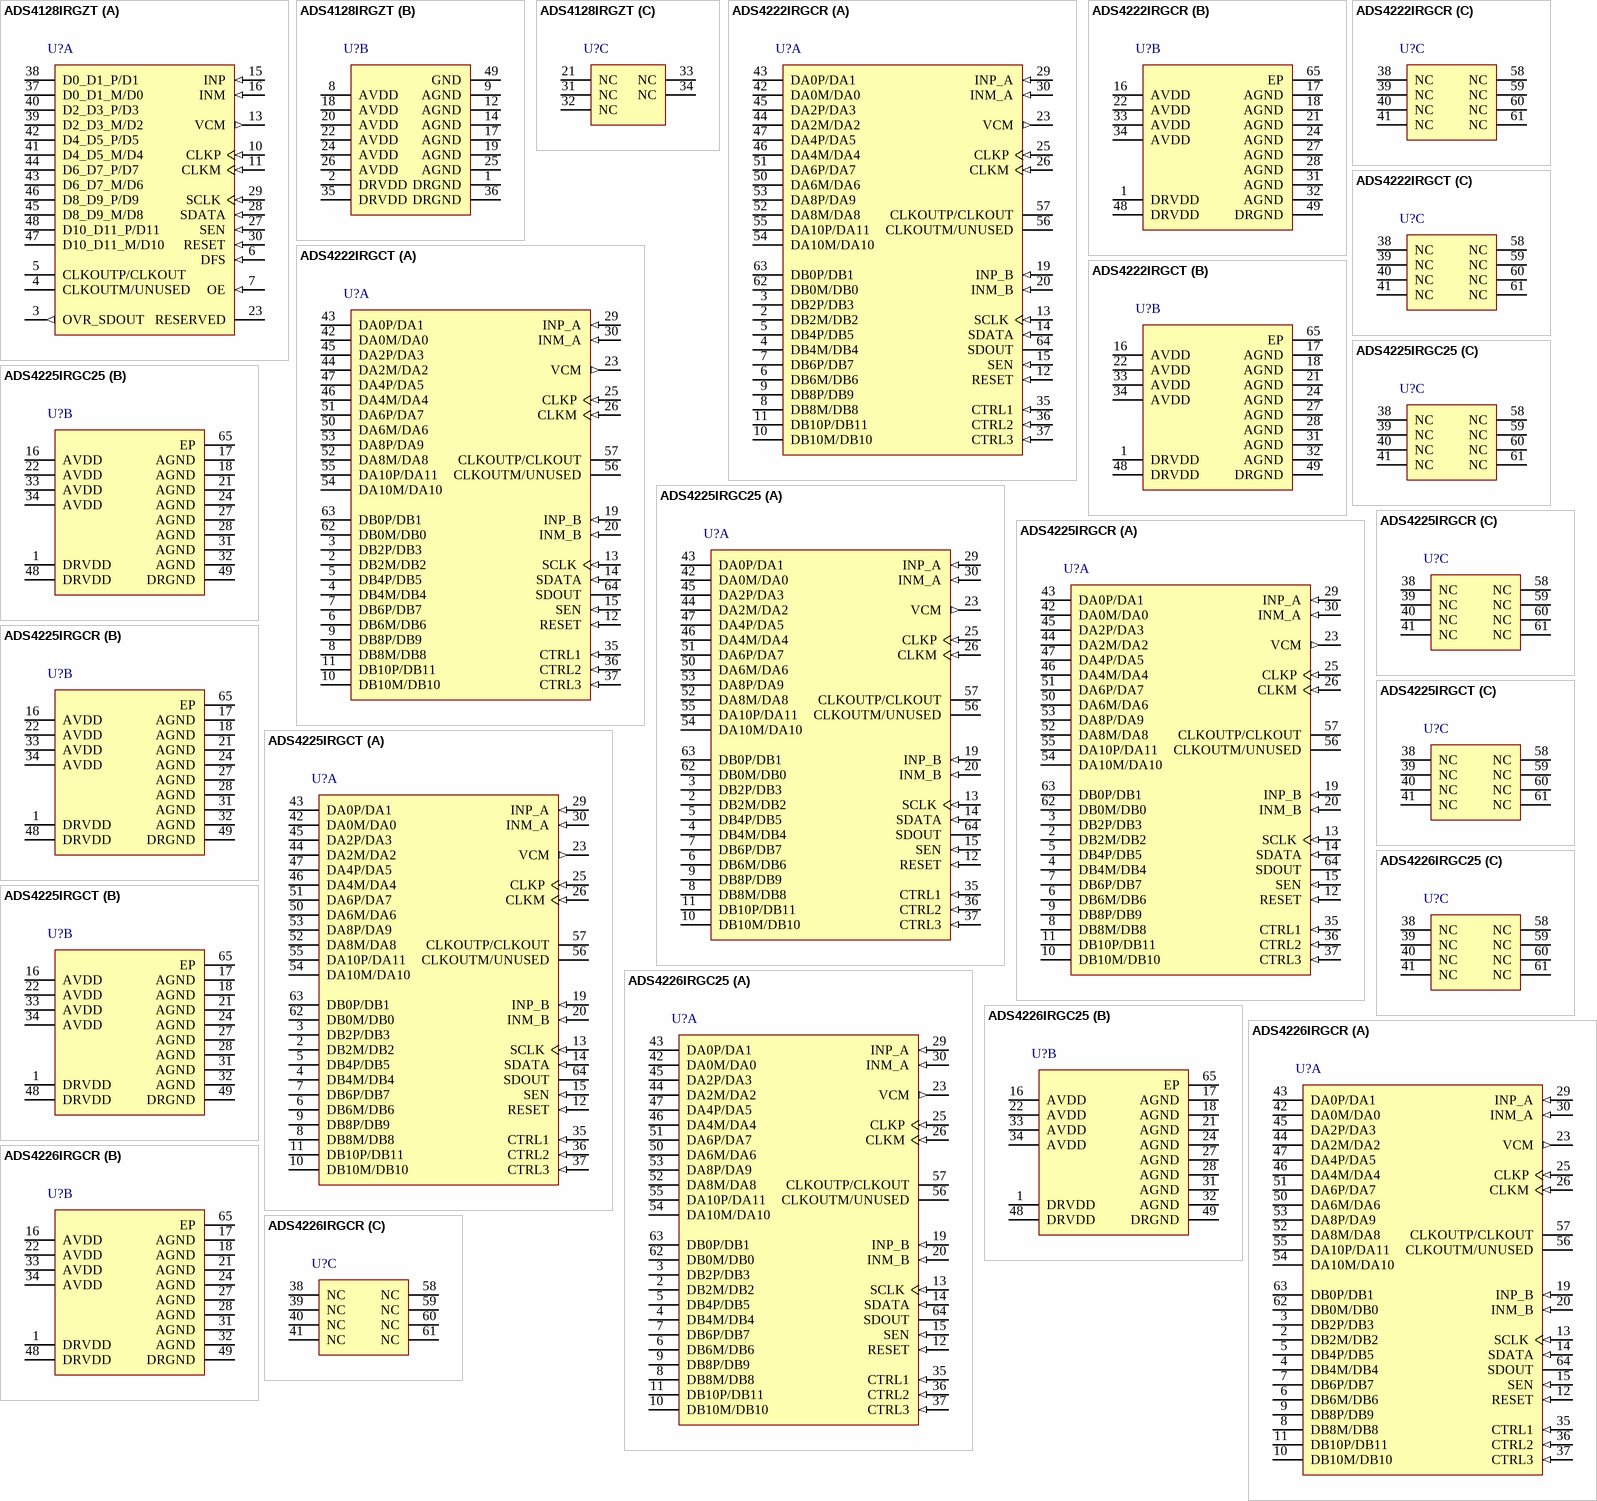
[diagram p32: symbols ADS4128IRGZT to ADS4226IRGCR]

## ADS4128IRGZT
designator U?
12-Bit, 200 MSPS, Ultralow-Power ADC, -40 to 85 degC, 48-pin QFN (RGZ48), Green (RoHS & no Sb/Br); Manufacturer: Texas Instruments; PartNumber: ADS4128IRGZT; # Input Channels: 1; Analog Voltage AV/DD(Max)(V): 1.9; Analog Voltage AV/DD(Min)(V): 1.7; Architecture: Pipeline; ENOB(Bits): 11.2; INL(Max)(+/-LSB): 5; Interface: Parallel CMOS, Parallel LVDS; Resolution(Bits): 12; Sample Rate(max)(SPS): 200M; SFDR(dB): 85; SINAD(dB): 68.8; SNR(dB): 69; SubFamily: High Speed ADC (>10MSPS); DatasheetVersion: SBAS578; PackageVersion: 4204101/F, 06/2011; PackageReference: RGZ48-5600X5600TP; PackageDescription: 48-Lead, Plastic Flat Pack, Body Size 7 x 7 mm, Pitch 0.5 mm; Supplier 1: Digi-Key; Supplier Part Number 1: THS1030IPWR-ND; Digital Supply(Max)(V): 1.9; Digital Supply(Min)(V): 1.7; Eco-Plan: Green (RoHS & no Sb/Br); Mounting Technology: Surface Mount; Code_JEDEC: MO-220; ComponentLink1Description: Manufacturer URL; ComponentLink1URL: http://www.ti.com/; ComponentLink2Description: Datasheet; ComponentLink2URL: http://www.ti.com/lit/ds/symlink/ads4128.pdf; ComponentLink3Description: Package Specification; ComponentLink3URL: http://www.ti.com/lit/ml/mpqf123e/mpqf123e.pdf
footprint TI-RGZ48-5600X5600TP_V (QFN, 48-Leads, Body 7x7mm, Pitch 0.5mm, Thermal Pad 5.6x5.6mm)
part A pins: 3 OVR_SDOUT (out) "This pin functions as an out-of-range indicator after reset when register bit READOUT = 0, and functions as a serial register readout pin when READOUT = 1.", 4 CLKOUTM/UNUSED (hiz), 5 CLKOUTP/CLKOUT (hiz), 6 DFS (in) "Data format select input. This pin sets the DATA FORMAT (twos complement or offset binary) and the LVDS and CMOS output interface type.", 7 OE (in) "Output buffer enable input, active high; this pin has an internal 180-kohm pull-up resistor to DRVDD.", 10 CLKP (in) "Differential clock input, positive", 11 CLKM (in) "Differential clock input, negative", 13 VCM (out) "Outputs the common-mode voltage (0.95 V) that can be used externally to bias the analog input pins.", 15 INP (in) "Differential analog input, positive", 16 INM (in) "Differential analog input, negative", 23 RESERVED "Digital control pin, reserved for future use", 27 SEN (in) "This pin functions as a serial interface enable input when RESET is low. When RESET is high, SEN has no function and should be tied to AVDD. This pin has an internal 180-kohm pull-up resistor to AVDD.", 28 SDATA (in) "This pin functions as a serial interface data input when RESET is low. When RESET is high, SDATA functions as a STANDBY control pin (see Table 10). This pin has an internal 180-kohm pull-down resistor.", 29 SCLK (in) "This pin functions as a serial interface clock input when RESET is low. When RESET is high, SCLK has no function and should be tied to ground. This pin has an internal 180-kohm pull-down resistor.", 30 RESET (in) "Serial interface RESET input. When using the serial interface mode, the internal registers must initialize through hardware RESET by applying a high pulse on this pin or by using the software reset option; refer to the (See Datasheet)", 37 D0_D1_M/D0 (hiz), 38 D0_D1_P/D1 (hiz), 39 D2_D3_M/D2 (hiz), 40 D2_D3_P/D3 (hiz), 41 D4_D5_M/D4 (hiz), 42 D4_D5_P/D5 (hiz), 43 D6_D7_M/D6 (hiz), 44 D6_D7_P/D7 (hiz), 45 D8_D9_M/D8 (hiz), 46 D8_D9_P/D9 (hiz), 47 D10_D11_M/D10 (hiz), 48 D10_D11_P/D11 (hiz)
part B pins: 1 DRGND (power) "Digital and output buffer ground", 2 DRVDD (power) "1.8-V digital and output buffer supply", 8 AVDD (power) "1.8-V analog power supply", 9 AGND (power) "Analog ground", 12 AGND (power) "Analog ground", 14 AGND (power) "Analog ground", 17 AGND (power) "Analog ground", 18 AVDD (power) "1.8-V analog power supply", 19 AGND (power) "Analog ground", 20 AVDD (power) "1.8-V analog power supply", 22 AVDD (power) "1.8-V analog power supply", 24 AVDD (power) "1.8-V analog power supply", 25 AGND (power) "Analog ground", 26 AVDD (power) "1.8-V analog power supply", 35 DRVDD (power) "1.8-V digital and output buffer supply", 36 DRGND (power) "Digital and output buffer ground", 49 GND (power) "Digital and output buffer ground"
part C pins: 21 NC "Do not connect", 31 NC "Do not connect", 32 NC "Do not connect", 33 NC "Do not connect", 34 NC "Do not connect"

## ADS4222IRGCR
designator U?
12-Bit 65 MSPS Dual Low Power ADC, -40 to 85 degC, 64-pin QFN (RGC64), Green (RoHS & no Sb/Br); Manufacturer: Texas Instruments; PartNumber: ADS4222IRGCR; # Input Channels: 2; Analog Voltage AV/DD(Max)(V): 1.9; Analog Voltage AV/DD(Min)(V): 1.7; Architecture: Pipeline; ENOB(Bits): 11.1; INL(Max)(+/-LSB): 2.5; Interface: Parallel CMOS, Parallel LVDS; Resolution(Bits): 12; Sample Rate (max)(SPS): 65M; SFDR(dB): 91; SINAD(dB): 70.8; SNR(dB): 70.9; SubFamily: High Speed ADC (>10MSPS); DatasheetVersion: SBAS533C; PackageVersion: 4204106/F, 11/2011; PackageReference: RGC64-7400X7400TP; PackageDescription: 64-Pin Plastic Quad Flatpack No-Lead, Body 9 x 9 mm, Pitch 0.5 mm; Supplier 1: Digi-Key; Supplier Part Number 1: THS1030IPWRG4-ND; Digital Supply(Max)(V): 1.9; Digital Supply(Min)(V): 1.7; Eco-Plan: Green (RoHS & no Sb/Br); Mounting Technology: Surface Mount; ComponentLink1Description: Manufacturer URL; ComponentLink1URL: http://www.ti.com/; ComponentLink2Description: Datasheet; ComponentLink2URL: http://www.ti.com/general/docs/lit/getliterature.tsp?genericPartNumber=ADS4222&fileType=pdf; ComponentLink3Description: Package Specification; ComponentLink3URL: http://www.ti.com/litv/pdf/mpqf125e
footprint TI-RGC64-7400X7400TP_V (QFN, 64-Leads, Body 9x9mm, Pitch 0.5mm, Thermal Pad 7.4x7.4mm, TI Recommended)
part A pins: 2 DB2M/DB2 (hiz), 3 DB2P/DB3 (hiz), 4 DB4M/DB4 (hiz), 5 DB4P/DB5 (hiz), 6 DB6M/DB6 (hiz), 7 DB6P/DB7 (hiz), 8 DB8M/DB8 (hiz), 9 DB8P/DB9 (hiz), 10 DB10M/DB10 (hiz), 11 DB10P/DB11 (hiz), 12 RESET (in) "Serial interface RESET input. When using the serial interface mode, the internal registers must be initialized through a hardware RESET by applying a high pulse on this pin or by using the software reset option; refer to the (See Datasheet)", 13 SCLK (in) "This pin functions as a serial interface clock input when RESET is low. It controls the low-speed mode selection when RESET is tied high; see Table 5 for detailed information. This pin has an internal 150kOhm pull-down (See Datasheet)", 14 SDATA (in) "Serial interface data input; this pin has an internal 150kOhm pull-down resistor.", 15 SEN (in) "This pin functions as a serial interface enable input when RESET is low. It controls the output interface and data format selection when RESET is tied high; see Table 6 for detailed information. This pin has an internal (See Datasheet)", 19 INP_B (in) "Differential analog positive input, channel B", 20 INM_B (in) "Differential analog negative input, channel B", 23 VCM (out) "This pin outputs the common-mode voltage (0.95V) that can be used externally to bias the analog input pins", 25 CLKP (in) "Differential clock positive input", 26 CLKM (in) "Differential clock negative input", 29 INP_A (in) "Differential analog positive input, channel A", 30 INM_A (in) "Differential analog negative input, channel A", 35 CTRL1 (in) "Digital control input pins. Together, they control the various power-down modes.", 36 CTRL2 (in) "Digital control input pins. Together, they control the various power-down modes.", 37 CTRL3 (in) "Digital control input pins. Together, they control the various power-down modes.", 42 DA0M/DA0 (hiz), 43 DA0P/DA1 (hiz), 44 DA2M/DA2 (hiz), 45 DA2P/DA3 (hiz), 46 DA4M/DA4 (hiz), 47 DA4P/DA5 (hiz), 50 DA6M/DA6 (hiz), 51 DA6P/DA7 (hiz), 52 DA8M/DA8 (hiz), 53 DA8P/DA9 (hiz), 54 DA10M/DA10 (hiz), 55 DA10P/DA11 (hiz), 56 CLKOUTM/UNUSED (hiz), 57 CLKOUTP/CLKOUT (hiz), 62 DB0M/DB0 (hiz), 63 DB0P/DB1 (hiz), 64 SDOUT (hiz) "This pin functions as a serial interface register readout when the READOUT bit is enabled. When READOUT = 0, this pin is in high-impedance state."
part B pins: 1 DRVDD (power) "Output buffer supply", 16 AVDD (power) "Analog power supply", 17 AGND (power) "Analog ground", 18 AGND (power) "Analog ground", 21 AGND (power) "Analog ground", 22 AVDD (power) "Analog power supply", 24 AGND (power) "Analog ground", 27 AGND (power) "Analog ground", 28 AGND (power) "Analog ground", 31 AGND (power) "Analog ground", 32 AGND (power) "Analog ground", 33 AVDD (power) "Analog power supply", 34 AVDD (power) "Analog power supply", 48 DRVDD (power) "Output buffer supply", 49 DRGND (power) "Output buffer ground", 65 EP (power) "Output buffer ground"
part C pins: 38 NC "Do not connect, must be floated", 39 NC "Do not connect, must be floated", 40 NC "Do not connect, must be floated", 41 NC "Do not connect, must be floated", 58 NC "Do not connect, must be floated", 59 NC "Do not connect, must be floated", 60 NC "Do not connect, must be floated", 61 NC "Do not connect, must be floated"